# EAGLE library part DW1000-DWM1000 (library Scott-Sensors)
DWM1000 DW1000-based UWB Module
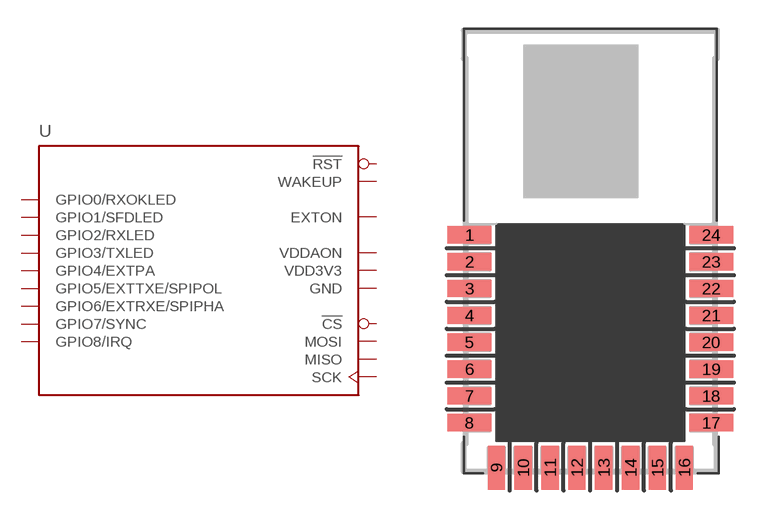
[diagram p0: symbol with the pads of DW1000-DWM1000-2; footprint DW1000-DWM1000-2]

Designator prefix U

## DW1000-DWM1000-2  [DW1000-DWM1000-2]
1  EXTON  out
2  WAKEUP  in
3  !RST  oc
4  GPIO7/SYNC
5  VDDAON  in
6  VDD3V3  in
7  VDD3V3  in
8  GND  in
9  GPIO6/EXTRXE/SPIPHA
10  GPIO5/EXTTXE/SPIPOL
11  GPIO4/EXTPA
12  GPIO3/TXLED
13  GPIO2/RXLED
14  GPIO1/SFDLED
15  GPIO0/RXOKLED
16  GND  in
17  !CS  in
18  MOSI  in
19  MISO  out
20  SCK  in
21  GND  in
22  GPIO8/IRQ
23  GND  in
24  GND  in

## Footprint DW1000-DWM1000-2 (pad centres in mm)
smd 2.3 x 0.9: 1 -6.3,0.85; 2 -6.3,-0.55; 3 -6.3,-1.95; 4 -6.3,-3.35; 5 -6.3,-4.75; 6 -6.3,-6.15; 7 -6.3,-7.55; 8 -6.3,-8.95; 17 6.3,-8.95; 18 6.3,-7.55; 19 6.3,-6.15; 20 6.3,-4.75; 21 6.3,-3.35; 22 6.3,-1.95; 23 6.3,-0.55; 24 6.3,0.85
smd 0.9 x 2.3: 9 -4.9,-11.3; 10 -3.5,-11.3; 11 -2.1,-11.3; 12 -0.7,-11.3; 13 0.7,-11.3; 14 2.1,-11.3; 15 3.5,-11.3; 16 4.9,-11.3